# Altium footprint library FootPrintLib_6.PcbLib: 588 footprints (part 20 of 37)
Each footprint in its own frame and in the unit in brackets; x right, y up, seen from the top. Pads: shape width x height; smd on the part's side, far side on the other; paste and mask are expansions set on the pad; w line width, h text height; cw(c..) or ccw(c..) is an arc to the next point about the centre after c.
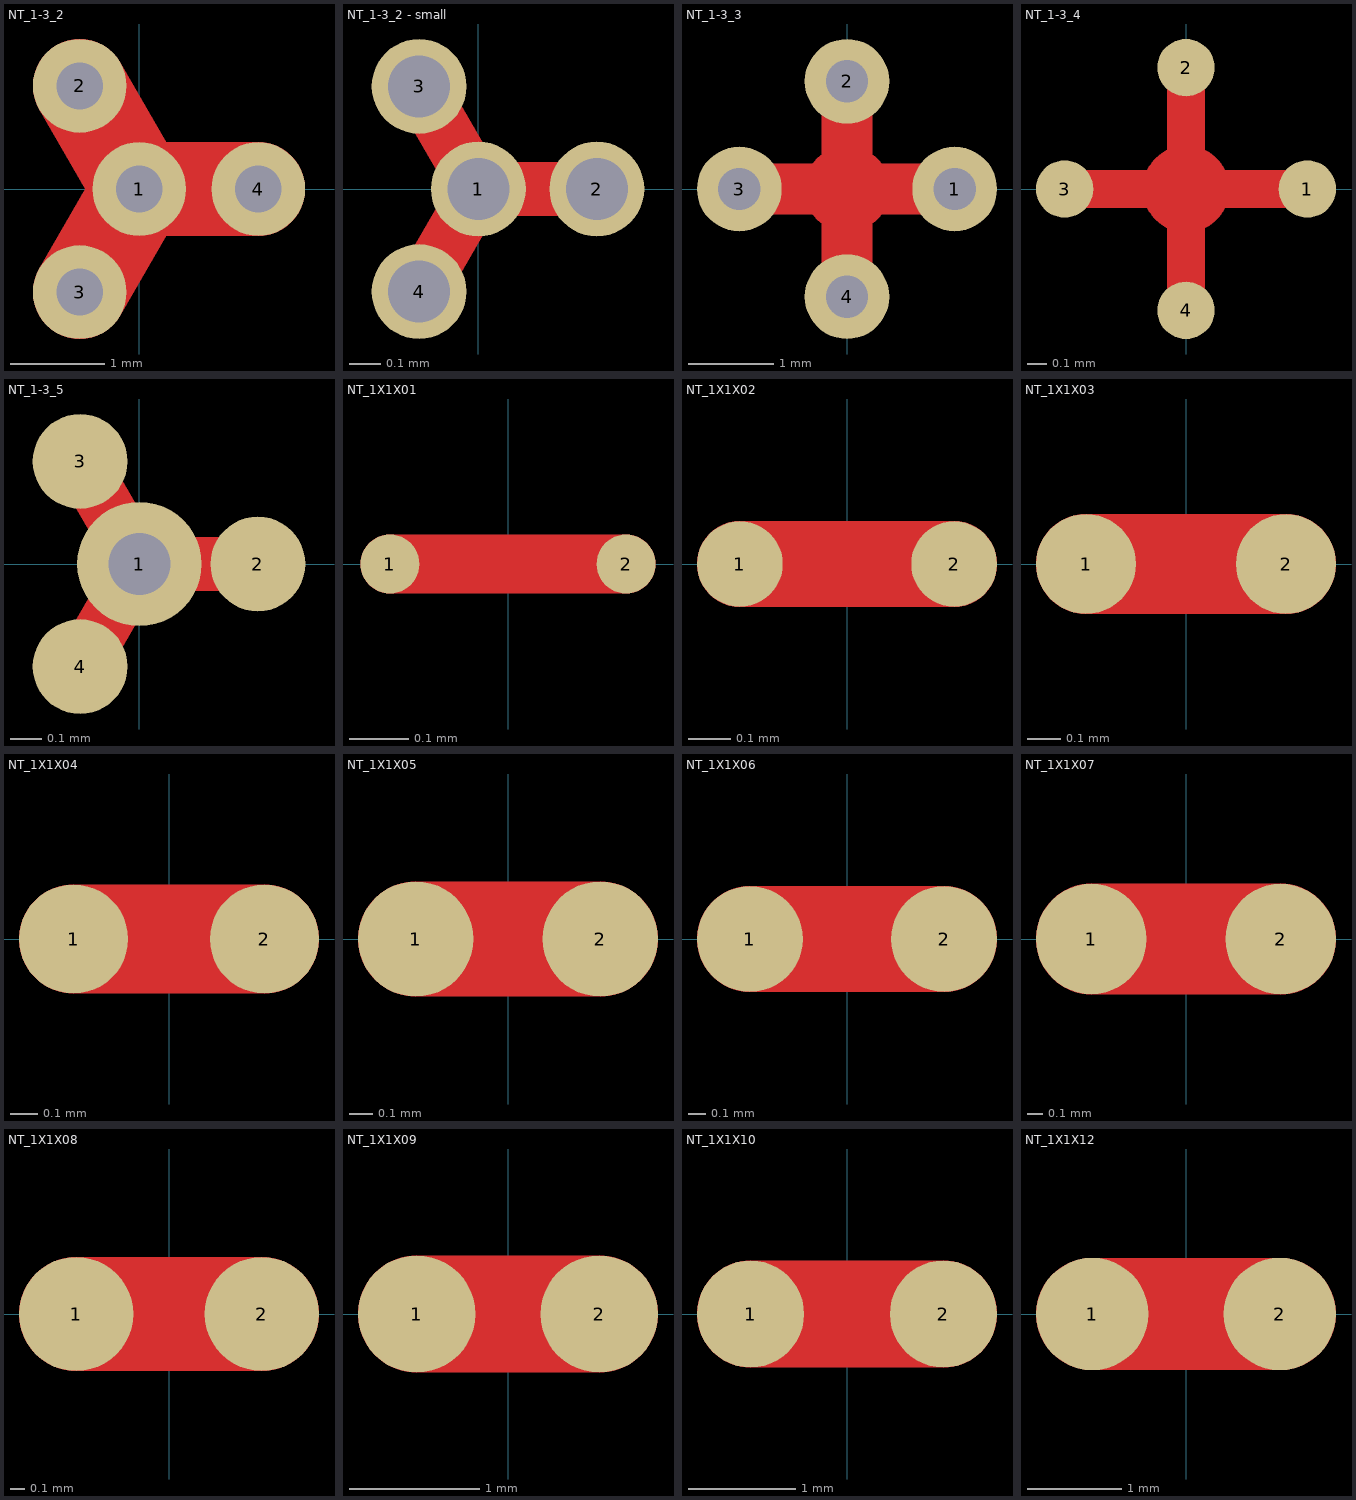
[diagram p19: the footprints below, top view; thin cyan lines are the x and y axes]

## NT_1-3_2 [mm] "NetTie One to Three"
pads (4):
  round 1 hole 0.5: 1(0,0) 2(-0.635,1.1) 3(-0.635,-1.1) 4(1.27,0)
Top Layer:
  lines w1: -0.635,-1.1 0,0 ; -0.635,1.1 0,0 ; 1.27,0 0,0

## NT_1-3_2 - small [mil] "NetTie One to Two"
pads (4):
  round 12 hole 7.87: 1(0,0) 2(15,0) 3(-7.5,12.99) 4(-7.5,-12.99)
Top Layer:
  lines w6.89: -7.5,-12.99 0,0 ; -7.5,12.99 0,0 ; 15,0 0,0

## NT_1-3_3 [mm] "NetTie One to Three"
pads (4):
  round 1 hole 0.5: 1(1.27,0) 2(0,1.27) 3(-1.27,0) 4(0,-1.27)
Top Layer:
  circle w0.254: c0,0 r0.381
  lines w0.6: -1.27,0 1.27,0 ; 0,-1.27 0,1.27

## NT_1-3_4 [mm] "NetTie One to Three"
pads (4):
  round 0.3 smd: 1(0.635,0) 2(0,0.635) 3(-0.635,0) 4(0,-0.635)
Top Layer:
  circle w0.2: c0,0 r0.127
  lines w0.2: -0.635,0 0.635,0 ; 0,-0.635 0,0.635

## NT_1-3_5 [mil] "NetTie One to Two"
pads (4):
  round 15.75 hole 7.87: 1(0,0)
  round 12 smd: 2(15,0) 3(-7.5,12.99) 4(-7.5,-12.99)
Top Layer:
  lines w6.89: -7.5,-12.99 0,0 ; -7.5,12.99 0,0 ; 15,0 0,0

## NT_1X1X01 [mm] "NetTie One to One - 0.1mm width"
pads (2):
  round 0.1 smd mask-3: 1(-0.2,0) 2(0.2,0)
Top Layer:
  lines w0.1: -0.2,0 0.2,0

## NT_1X1X02 [mm] "NetTie One to One - 0.2mm width"
pads (2):
  round 0.2 smd mask-3: 1(-0.25,0) 2(0.25,0)
Top Layer:
  lines w0.2: -0.25,0 0.25,0

## NT_1X1X03 [mm] "NetTie One to One- 0.3mm width"
pads (2):
  round 0.3 smd mask-3: 1(-0.3,0) 2(0.3,0)
Top Layer:
  lines w0.3: -0.3,0 0.3,0

## NT_1X1X04 [mm] "NetTie One to One- 0.4mm width"
pads (2):
  round 0.4 smd mask-3: 1(-0.35,0) 2(0.35,0)
Top Layer:
  lines w0.4: -0.35,0 0.35,0

## NT_1X1X05 [mm] "NetTie One to One- 0.5mm width"
pads (2):
  round 0.5 smd mask-3: 1(-0.4,0) 2(0.4,0)
Top Layer:
  lines w0.5: -0.4,0 0.4,0

## NT_1X1X06 [mm] "NetTie One to One- 0.6mm width"
pads (2):
  round 0.6 smd mask-3: 1(-0.55,0) 2(0.55,0)
Top Layer:
  lines w0.6: -0.55,0 0.55,0

## NT_1X1X07 [mm] "NetTie One to One- 0.7mm width"
pads (2):
  round 0.7 smd mask-3: 1(-0.6,0) 2(0.6,0)
Top Layer:
  lines w0.7: -0.6,0 0.6,0

## NT_1X1X08 [mm] "NetTie One to One- 0.8mm width"
pads (2):
  round 0.8 smd mask-3: 1(-0.65,0) 2(0.65,0)
Top Layer:
  lines w0.8: -0.65,0 0.65,0

## NT_1X1X09 [mm] "NetTie One to One- 0.9mm width"
pads (2):
  round 0.9 smd mask-3: 1(-0.7,0) 2(0.7,0)
Top Layer:
  lines w0.9: -0.7,0 0.7,0

## NT_1X1X10 [mm] "NetTie One to One- 1.0mm width"
pads (2):
  round 1 smd mask-3: 1(-0.9,0) 2(0.9,0)
Top Layer:
  lines w1: -0.9,0 0.9,0

## NT_1X1X12 [mm] "NetTie One to One- 1.2mm width"
pads (2):
  round 1.2 smd mask-3: 1(-1,0) 2(1,0)
Top Layer:
  lines w1.2: -1,0 1,0